# EAGLE library part DPDT (library reprap)
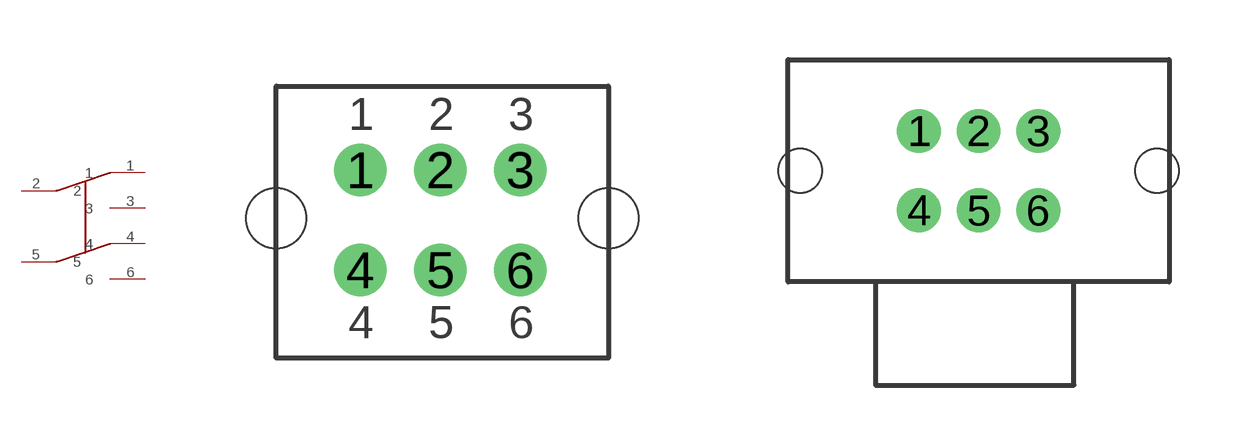
[diagram p16: symbol with the pads of DPDT; footprints DPDT, ALPS-SSAC-RA]

Designator prefix -

## DPDT  [DPDT]
1  1
2  2
3  3
4  4
5  5
6  6

## DPDTALPS  [ALPS-SSAC-RA]
Pads as for DPDT

## Footprint DPDT (pad centres in mm)
drill 0.8 round: 1 0,2.5; 2 2,2.5; 3 4,2.5; 4 0,0; 5 2,0; 6 4,0
hole 1.5 at -2.1,1.3
hole 1.5 at 6.2,1.3

## Footprint ALPS-SSAC-RA (pad centres in mm)
drill 0.6 round: 1 -1.5,1; 2 0,1; 3 1.5,1; 4 -1.5,-1; 5 0,-1; 6 1.5,-1
hole 1.1 at -4.5,0
hole 1.1 at 4.5,0